# EAGLE library part *33035 (library motorola-sensor-driver)
Brushless DC Motor Controller http://onsemi.com; mc33035-d.pdf
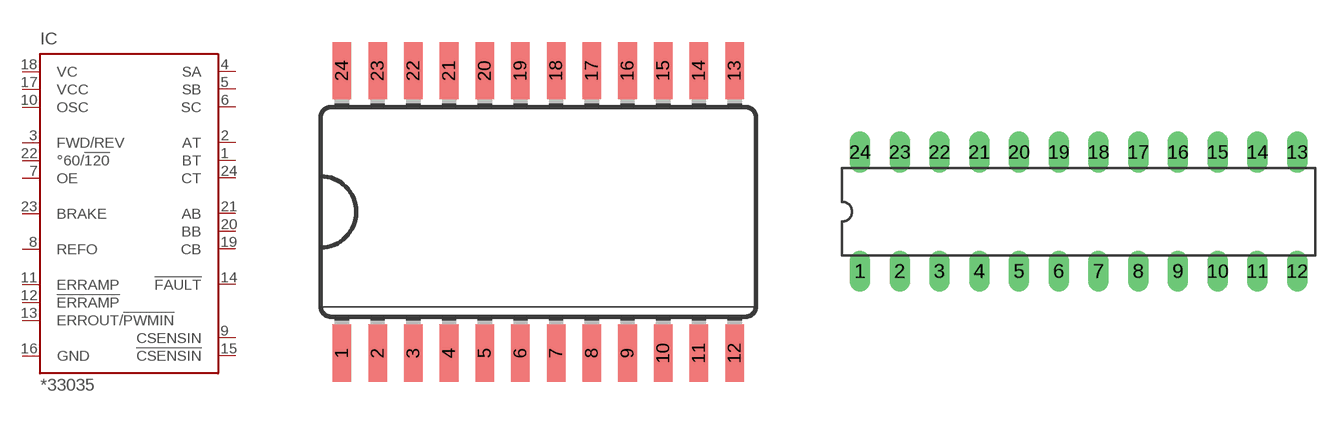
[diagram p2: symbol with the pads of SO24L; footprints SO24L, DIL24S]

Designator prefix IC

## MC33035DW (MF: ON SEMICONDUCTOR; MPN: MC33035DW; OC_FARNELL: 1652428; OC_NEWARK: 07F4697), NCV33035DW (MF: ON SEMICONDUCTOR; MPN: NCV33035DWR2; OC_FARNELL: unknown; OC_NEWARK: 67C3170)  [SO24L]
1  BT  out
2  AT  out
3  FWD/REV  in
4  SA  in
5  SB  in
6  SC  in
7  OE  in
8  REFO  out
9  CSENSIN  in
10  OSC  in
11  ERRAMP  in
12  !ERRAMP  in
13  ERROUT/!PWMIN  pas
14  !FAULT  out
15  !CSENSIN  in
16  GND  pwr
17  VCC  pwr
18  VC  pwr
19  CB  out
20  BB  out
21  AB  out
22  °60/!120  in
23  BRAKE  in
24  CT  out

## 33035P (MF: ON SEMICONDUCTOR; MPN: MC33035P; OC_FARNELL: 1192056; OC_NEWARK: 07F4698)  [DIL24S]
Pads as for SO24L

## Footprint SO24L (pad centres in mm)
Small Outline Package Large SO-24L; Case 751 http://onsemi.com; mc33035-d.pdf
smd 0.66 x 2.032: 1 -6.985,-5.029; 2 -5.715,-5.029; 3 -4.445,-5.029; 4 -3.175,-5.029; 5 -1.905,-5.029; 6 -0.635,-5.029; 7 0.635,-5.029; 8 1.905,-5.029; 9 3.175,-5.029; 10 4.445,-5.029; 11 5.715,-5.029; 12 6.985,-5.029; 13 6.985,5.029; 14 5.715,5.029; 15 4.445,5.029; 16 3.175,5.029; 17 1.905,5.029; 18 0.635,5.029; 19 -0.635,5.029; 20 -1.905,5.029; 21 -3.175,5.029; 22 -4.445,5.029; 23 -5.715,5.029; 24 -6.985,5.029

## Footprint DIL24S (pad centres in mm)
Dual In Line Small
drill 0.813 long: 1 -13.97,-3.81; 2 -11.43,-3.81; 3 -8.89,-3.81; 4 -6.35,-3.81; 5 -3.81,-3.81; 6 -1.27,-3.81; 7 1.27,-3.81; 8 3.81,-3.81; 9 6.35,-3.81; 10 8.89,-3.81; 11 11.43,-3.81; 12 13.97,-3.81; 13 13.97,3.81; 14 11.43,3.81; 15 8.89,3.81; 16 6.35,3.81; 17 3.81,3.81; 18 1.27,3.81; 19 -1.27,3.81; 20 -3.81,3.81; 21 -6.35,3.81; 22 -8.89,3.81; 23 -11.43,3.81; 24 -13.97,3.81